# Altium footprint library KBPC5012.PcbLib: 1 footprints
Each footprint in its own frame and in the unit in brackets; x right, y up, seen from the top. Pads: shape width x height; smd on the part's side, far side on the other; paste and mask are expansions set on the pad; w line width, h text height; cw(c..) or ccw(c..) is an arc to the next point about the centre after c.
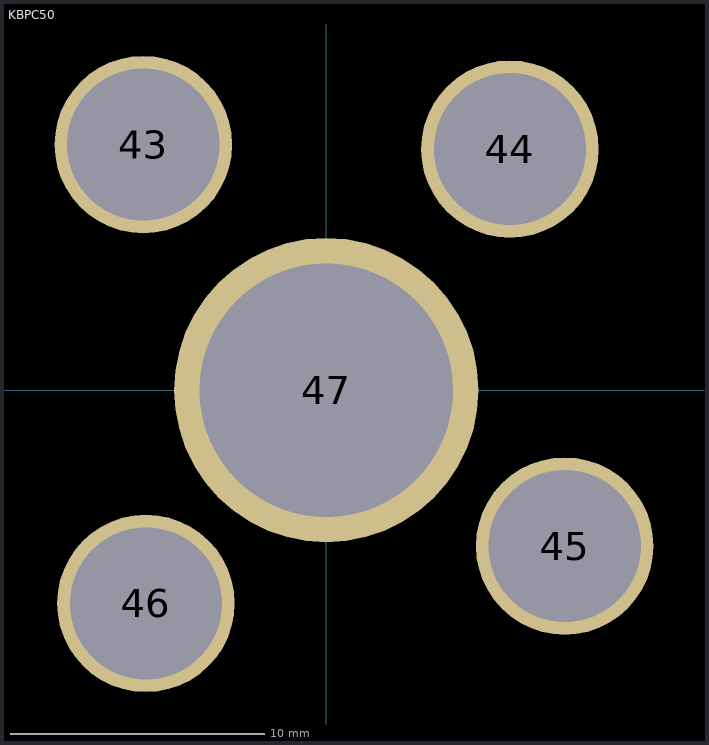
[diagram p0: the footprint, top view; thin cyan lines are the x and y axes]

## KBPC50 [mm]
pads (5):
  round 7 hole 6: 43(-7.214,9.677) 44(7.239,9.5) 45(9.398,-6.147) 46(-7.112,-8.407)
  round 12 hole 10: 47(0,0)
3D body "KBPC5012.step": height 7.5, standoff -14.5, extent -14.224,-14.072 14.376,14.528
3D body: height 12.6, standoff 0.7, extent 5.08,0 5.08,0